# Altium schematic symbol library SCH - DRIVER - LED - TI TPS61150_DRC_10.SchLib: 1 symbol
Pins are listed as number, name and electrical type; pins without a type are passive.

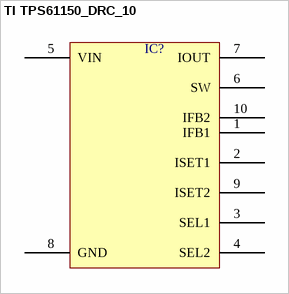
[diagram p0: symbol TI TPS61150_DRC_10]

## TI TPS61150_DRC_10
designator IC?  (value not drawn)
pins: 1 IFB1, 2 ISET1, 3 SEL1, 4 SEL2, 5 VIN, 6 SW, 7 IOUT, 8 GND, 9 ISET2, 10 IFB2